# Altium schematic symbol library UCC27511AQDBVRQ1.Schlib: 1 symbol
Pins are listed as number, name and electrical type; pins without a type are passive.

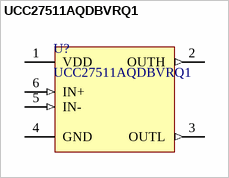
[diagram p0: symbol UCC27511AQDBVRQ1]

## UCC27511AQDBVRQ1
designator U?
Gate Drivers Sngl-Ch high-Spd Low-Side Gate Driver
pins: 1 VDD (power), 2 OUTH (out), 3 OUTL (out), 4 GND (power), 5 IN- (in), 6 IN+ (in)